# Altium schematic symbol library Main.SCHLIB: 29 symbols
Pins are listed as number, name and electrical type; pins without a type are passive.

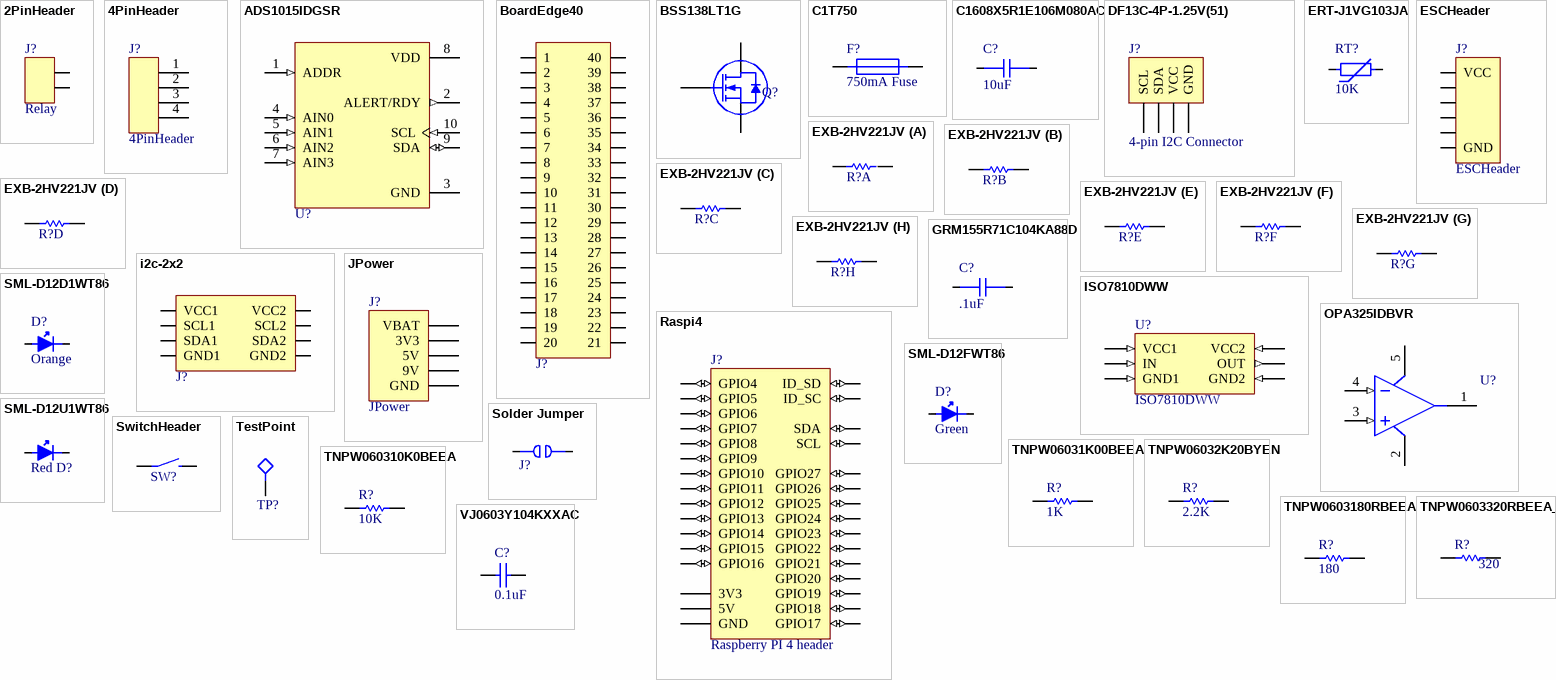
[diagram p0: symbols 2PinHeader to VJ0603Y104KXXAC]

## 2PinHeader
designator J?, comment Relay
Supplier 1: Digi-Key; Supplier Part Number 1: 3M9457-36-ND
footprint 2PinHeader
footprint MOLEX_0026604020
footprint 37212-62M3-003PL; pin to pad 1>1+4+7+10 2>2+5+8+11
pins: 1, 2

## 4PinHeader
designator J?
Supplier 1: Digi-Key; Supplier Part Number 1: 3M9457-36-ND
footprint 4PinHeader
footprint HEADERPINS_2x2
footprint ESCHeader; pin to pad 1>1+5+9 2>2+6+10 3>3+7+11 4>4+8+12
pins: 1, 2, 3 1, 4 2

## ADS1015IDGSR
designator U?  (value not drawn)
12 Bit Analog to Digital Converter 2, 4 Input 1 Sigma-Delta 10-VSSOP; MF: Texas Instruments; SnapEDA_Link: https://www.snapeda.com/parts/ADS1015IDGSR/Texas%20Instruments/view-part/449361/?ref=snap; MP: ADS1015IDGSR; Value: *; Digi-Key_Part_Number: 296-41185-1-ND; Digi-Key_Purchase_URL: https://www.digikey.ca/product-detail/en/texas-instruments/ADS1015IDGSR/296-41185-1-ND/5222640?utm_source=snapeda&utm_medium=aggregator&utm_campaign=symbol; Package: MSOP-10 Texas Instruments; Supplier 1: Digi-Key; Supplier Part Number 1: 296-41185-1-ND
footprint SOP50P490X110-10N
pins: 1 ADDR (in), 2 ALERT/RDY (out), 3 GND (power), 4 AIN0 (in), 5 AIN1 (in), 6 AIN2 (in), 7 AIN3 (in), 8 VDD (power), 9 SDA (io), 10 SCL (in)

## BoardEdge40
designator J?  (value not drawn)
40 Position Female Connector Non Specified - Dual Edge Gold 0.031" (0.80mm) Black; Supplier 1: Digi-Key; Supplier Part Number 1: 3M12034CT-ND
footprint SPD08-040-L-RB-TR
footprint SPD08-040-L-RB-TR-Board
pins: 1, 2, 3, 4, 5, 6, 7, 8, 9, 10, 11, 12, 13, 14, 15, 16, 17, 18, 19, 20, 21, 22, 23, 24, 25, 26, 27, 28, 29, 30, 31, 32, 33, 34, 35, 36, 37, 38, 39, 40

## BSS138LT1G
designator Q?, comment MOSFET N-CH  (value not drawn)
MOSFET N-CH 50V 200MA SOT-23; Manufacturer 1: ON Semiconductor; Manufacturer Part Number 1: BSS138LT1G; Rds On Max: 3.5R; Max Power Dissipation: 225mW; Input Capacitance: 50pF; Turn-Off Delay Time: 20ns; Gate to Source Voltage (Vgs): 20V; Number of Elements: 1; Element Configuration: Single; Threshold Voltage: 1.5V; Supplier 1: Digi-Key; Supplier Part Number 1: BSS138LT1GOSCT-ND; Stock 1: 952638; Pricing 1: 1=0.26000, 10=0.21100, 100=0.11210, 500=0.07376, 1000=0.05016 (USD); RoHS: Yes; Case/Package: SOT-23-3; Number of Pins: 3; Contact Plating: Tin,Matte; Min Operating Temperature: -55°C; Max Operating Temperature: 150°C; Packaging: Tape and Reel; Continuous Drain Current (ID): 200mA; Drain to Source Resistance: 3.5R; Package Quantity: 1; Drain to Source Breakdown Voltage: 50V; Power Dissipation: 225mW; Turn-On Delay Time: 20ns; Nominal Vgs: 1.5V; Voltage Rating (DC): 50V; Current Rating: 200mA; On-State Resistance: 3.5R; Length: 3.04mm; Height: 1.01mm; Width: 1.4mm; Radiation Hardening: No; Lead Free: Lead Free; REACH SVHC: No SVHC; Halogen Free: Halogen Free; ComponentLink1URL: https://datasheet.ciiva.com/22641/1596366-22641636.pdf?src-supplier=Element14; ComponentLink1Description: https://datasheet.ciiva.com/22641/1596366-22641636.pdf?src-supplier=Element14; ComponentLink2URL: https://datasheet.ciiva.com/936/bss138lt1-d-936801.pdf?src-supplier=Digi-Key; ComponentLink2Description: https://datasheet.ciiva.com/936/bss138lt1-d-936801.pdf?src-supplier=Digi-Key; ComponentLink3URL: https://datasheet.ciiva.com/936/bss138lt1-d-936802.pdf?src-supplier=Digi-Key; ComponentLink3Description: https://datasheet.ciiva.com/936/bss138lt1-d-936802.pdf?src-supplier=Digi-Key; ComponentLink4URL: https://datasheet.ciiva.com/936/bss138lt1-d-936803.pdf?src-supplier=Digi-Key; ComponentLink4Description: https://datasheet.ciiva.com/936/bss138lt1-d-936803.pdf?src-supplier=Digi-Key; ComponentLink5URL: https://datasheet.ciiva.com/14553/70099493-14553829.pdf?src-supplier=Allied+Electronics; ComponentLink5Description: https://datasheet.ciiva.com/14553/70099493-14553829.pdf?src-supplier=Allied+Electronics; ComponentLink6URL: https://datasheet.ciiva.com/1190/1596366-1190136.pdf?src-supplier=Element14; ComponentLink6Description: https://datasheet.ciiva.com/1190/1596366-1190136.pdf?src-supplier=Element14; ComponentLink7URL: https://datasheet.ciiva.com/1190/1596366-1190137.pdf?src-supplier=Element14; ComponentLink7Description: https://datasheet.ciiva.com/1190/1596366-1190137.pdf?src-supplier=Element14; ComponentLink8URL: https://datasheet.ciiva.com/15198/getdatasheetpartid-110266-15198908.pdf?src-supplier=Verical; ComponentLink8Description: https://datasheet.ciiva.com/15198/getdatasheetpartid-110266-15198908.pdf?src-supplier=Verical; ComponentLink9URL: https://datasheet.ciiva.com/8115/bss138lt1-d-8115358.pdf?src-supplier=Avnet; ComponentLink9Description: https://datasheet.ciiva.com/8115/bss138lt1-d-8115358.pdf?src-supplier=Avnet; ComponentLink10URL: https://datasheet.ciiva.com/8115/bss138lt1-d-8115295.pdf?src-supplier=Avnet; ComponentLink10Description: https://datasheet.ciiva.com/8115/bss138lt1-d-8115295.pdf?src-supplier=Avnet
footprint ONSC-SOT-23-3-318-08_V (SOT23, 3-Leads, Body 2.92x1.3mm, Pitch 0.95mm)
footprint BSS138 SOT-23
pins: 1 G, 2 S, 3 D

## C1T750
designator F?, comment 750mA Fuse
FUSE 750MA 63VAC/DC SLOW 1206; Manufacturer 1: Bel TRP; Manufacturer Part Number 1: C1T750; Voltage Rating (AC): 63V; Fuse Type: Board Mount (Cartridge Style Excluded); Approvals: CE,cURus; Supplier 1: Digi-Key; Supplier Part Number 1: 507-1890-1-ND; Stock 1: 49664; Pricing 1: 1=0.31000, 5=0.29800, 10=0.28500, 50=0.25460, 100=0.23700, 250=0.21068, 500=0.17556, 1000=0.16678 (USD); RoHS: Yes; Mount: Surface Mount; Case/Package: 1206; Number of Pins: 2; Case Code (Metric): 3216; Case Code (Imperial): 1206; Contact Plating: Tin; Min Operating Temperature: -55°C; Max Operating Temperature: 125°C; Packaging: Tape and Reel; Current Rating: 750mA; Voltage Rating (DC): 63V; Voltage Rating: 63V; Length: 0.126inch; Width: 0.062inch; ComponentLink1URL: http://www.mouser.com/ds/2/643/C1T-594765.pdf?src-supplier=Mouser; ComponentLink1Description: http://www.mouser.com/ds/2/643/C1T-594765.pdf?src-supplier=Mouser; ComponentLink2URL: http://belfuse.com/pdfs/C1T.pdf?src-supplier=Avnet; ComponentLink2Description: http://belfuse.com/pdfs/C1T.pdf?src-supplier=Avnet; ComponentLink3URL: https://belfuse.com/resources/datasheets/circuitprotection/ds-cp-c1t-series.pdf?src-supplier=Digi-Key; ComponentLink3Description: https://belfuse.com/resources/datasheets/circuitprotection/ds-cp-c1t-series.pdf?src-supplier=Digi-Key
footprint FUSC3216X130N
pins: 1, 2

## C1608X5R1E106M080AC
designator C?, comment 10uF
CAP CER 10UF 25V X5R 0603; Manufacturer 1: TDK; Manufacturer Part Number 1: C1608X5R1E106M080AC; Dielectric Material: Ceramic; Tolerance: 20%; Supplier 1: Digi-Key; Supplier Part Number 1: 445-9015-1-ND; Stock 1: 307531; Pricing 1: 1=0.84000, 10=0.62000, 100=0.42500, 500=0.33650, 1000=0.28336 (USD); RoHS: Yes; Mount: Surface Mount; Case/Package: 0603; Weight: 7.1E-05oz; Case Code (Imperial): 0603; Case Code (Metric): 1608; Min Operating Temperature: -55°C; Max Operating Temperature: 85°C; Capacitance: 10uF; Packaging: Tape and Reel; Voltage Rating: 25V; Termination: SMD/SMT; Voltage Rating (DC): 25V; Composition: Ceramic; Dielectric: X5R; Package Quantity: 1; Length: 1.6mm; Height: 0.8mm; Width: 0.8mm; Thickness: 0.039inch; Depth: 0.8mm; Lead Free: Lead Free; REACH SVHC: No SVHC; ComponentLink1URL: http://components.arrow.com/part/dataview/0323_06887183?src-supplier=Arrow+Europe; ComponentLink1Description: http://components.arrow.com/part/dataview/0323_06887183?src-supplier=Arrow+Europe; ComponentLink2URL: http://www.farnell.com/datasheets/2792994.pdf?src-supplier=Farnell; ComponentLink2Description: http://www.farnell.com/datasheets/2792994.pdf?src-supplier=Farnell; ComponentLink3URL: http://www.farnell.com/datasheets/2291921.pdf?src-supplier=Avnet; ComponentLink3Description: http://www.farnell.com/datasheets/2291921.pdf?src-supplier=Avnet; ComponentLink4URL: http://www.farnell.com/datasheets/2792994.pdf?src-supplier=Newark; ComponentLink4Description: http://www.farnell.com/datasheets/2792994.pdf?src-supplier=Newark; ComponentLink5URL: http://www.farnell.com/datasheets/2291921.pdf?src-supplier=Newark; ComponentLink5Description: http://www.farnell.com/datasheets/2291921.pdf?src-supplier=Newark; ComponentLink6URL: http://www.farnell.com/datasheets/2792994.pdf?src-supplier=Element14; ComponentLink6Description: http://www.farnell.com/datasheets/2792994.pdf?src-supplier=Element14; ComponentLink7URL: http://www.farnell.com/datasheets/1913358.pdf?src-supplier=Element14; ComponentLink7Description: http://www.farnell.com/datasheets/1913358.pdf?src-supplier=Element14; ComponentLink8URL: https://product.tdk.com/info/en/catalog/datasheets/mlcc_commercial_general_en.pdf?src-supplier=Digi-Key; ComponentLink8Description: https://product.tdk.com/info/en/catalog/datasheets/mlcc_commercial_general_en.pdf?src-supplier=Digi-Key; ComponentLink9URL: http://www.farnell.com/datasheets/2291921.pdf?src-supplier=RSComponents; ComponentLink9Description: http://www.farnell.com/datasheets/2291921.pdf?src-supplier=RSComponents; ComponentLink10URL: http://www.farnell.com/datasheets/2291921.pdf?src-supplier=Verical; ComponentLink10Description: http://www.farnell.com/datasheets/2291921.pdf?src-supplier=Verical; ComponentLink11URL: http://www.farnell.com/datasheets/2291921.pdf?src-supplier=Mouser; ComponentLink11Description: http://www.farnell.com/datasheets/2291921.pdf?src-supplier=Mouser; ComponentLink12URL: http://www.farnell.com/datasheets/2291921.pdf?src-supplier=Quest; ComponentLink12Description: http://www.farnell.com/datasheets/2291921.pdf?src-supplier=Quest; ComponentLink13URL: http://www.farnell.com/datasheets/2291921.pdf?src-supplier=TTI; ComponentLink13Description: http://www.farnell.com/datasheets/2291921.pdf?src-supplier=TTI
footprint 0603
pins: 1, 2

## DF13C-4P-1.25V(51)
designator J?, comment 4-pin I2C Connector
Headers & Wire Housings 1.25MM V PCB HEADER 4P SMT GOLD; Manufacturer 1: Hirose; Manufacturer Part Number 1: DF13C-4P-1.25V(51); Number of Contacts: 4; Current Rating: 1A; Voltage Rating: 150V; Contact Resistance: 30mR; Supplier 1: Digi-Key; Supplier Part Number 1: H126000CT-ND; Stock 1: 692; Pricing 1: 1=0.86000, 10=0.75700, 100=0.65340, 500=0.53460 (USD); RoHS: Yes; Contact Plating: Gold; Contact Material: Brass; Housing Color: Beige; Housing Material: Polyamide; Min Operating Temperature: -35°C; Max Operating Temperature: 85°C; Number of Rows: 1; Termination: Solder; Packaging: Tape and Reel; Number of Positions: 4; Contact Gender: Male; Max Current Rating: 1A; Max Voltage Rating (AC): 150V; Orientation: Straight; Length: 9.65mm; Pitch: 1.25mm; Depth: 3.4mm; Radiation Hardening: No; Lead Free: Lead Free; ComponentLink1URL: https://datasheet.ciiva.com/26898/getdatasheetpartid-434101-26898082.pdf?src-supplier=Verical; ComponentLink1Description: https://datasheet.ciiva.com/26898/getdatasheetpartid-434101-26898082.pdf?src-supplier=Verical; ComponentLink2URL: https://datasheet.ciiva.com/5153/en-df13-20130411-5153743.pdf?src-supplier=Mouser; ComponentLink2Description: https://datasheet.ciiva.com/5153/en-df13-20130411-5153743.pdf?src-supplier=Mouser
footprint CON4_1X4_U_DF13; pin to pad 1>4 2>1 4>2
pins: 1 GND, 2 VCC, 3 SDA, 4 SCL

## ERT-J1VG103JA
designator RT?, comment 10K
Thermistor NTC 10KOhm 5% 2-Pin 0603 Punched Carrier T/R; Manufacturer 1: Panasonic; Manufacturer Part Number 1: ERT-J1VG103JA; Max Power Dissipation: 100mW; Accuracy: 1%; Resistance: 10kR; Supplier 1: Digi-Key; Supplier Part Number 1: P12014CT-ND; Stock 1: 47318; Pricing 1: 1=0.15000, 5=0.14600, 10=0.13000, 25=0.12000, 50=0.09600, 100=0.08240, 500=0.07208, 1000=0.06178 (USD); RoHS: Yes; Mount: Surface Mount; Case/Package: 0603; Number of Pins: 2; Case Code (Metric): 1608; Case Code (Imperial): 0603; Min Operating Temperature: -40°C; Max Operating Temperature: 125°C; Termination: SMD/SMT; Packaging: Tape and Reel; Tolerance: 5%; Package Quantity: 4000; Length: 1.6mm; Depth: 0.8mm; Width: 800um; Radiation Hardening: No; Lead Free: Lead Free; REACH SVHC: No SVHC; ComponentLink1URL: https://datasheet.ciiva.com/1303/1314428-1303168.pdf?src-supplier=Farnell; ComponentLink1Description: https://datasheet.ciiva.com/1303/1314428-1303168.pdf?src-supplier=Farnell; ComponentLink2URL: https://datasheet.ciiva.com/30067/aua0000ce1-30067157.pdf?src-supplier=Onlinecomponents.com; ComponentLink2Description: https://datasheet.ciiva.com/30067/aua0000ce1-30067157.pdf?src-supplier=Onlinecomponents.com; ComponentLink3URL: https://datasheet.ciiva.com/46376/1314428-46376550.pdf?src-supplier=Element14; ComponentLink3Description: https://datasheet.ciiva.com/46376/1314428-46376550.pdf?src-supplier=Element14; ComponentLink4URL: https://datasheet.ciiva.com/2848/aua0000ce1-2848556.pdf?src-supplier=Digi-Key; ComponentLink4Description: https://datasheet.ciiva.com/2848/aua0000ce1-2848556.pdf?src-supplier=Digi-Key; ComponentLink5URL: https://datasheet.ciiva.com/16394/aua0000ce1-16394028.pdf?src-supplier=Future+Electronics; ComponentLink5Description: https://datasheet.ciiva.com/16394/aua0000ce1-16394028.pdf?src-supplier=Future+Electronics; ComponentLink6URL: https://datasheet.ciiva.com/46388/1314428-46388812.pdf?src-supplier=Element14; ComponentLink6Description: https://datasheet.ciiva.com/46388/1314428-46388812.pdf?src-supplier=Element14; ComponentLink7URL: https://datasheet.ciiva.com/2848/aua0000ce1-2848557.pdf?src-supplier=Digi-Key; ComponentLink7Description: https://datasheet.ciiva.com/2848/aua0000ce1-2848557.pdf?src-supplier=Digi-Key; ComponentLink8URL: https://datasheet.ciiva.com/2848/aua0000ce1-2848558.pdf?src-supplier=Digi-Key; ComponentLink8Description: https://datasheet.ciiva.com/2848/aua0000ce1-2848558.pdf?src-supplier=Digi-Key; ComponentLink9URL: https://datasheet.ciiva.com/3280/aua0000ce1-3280462.pdf?src-supplier=Avnet; ComponentLink9Description: https://datasheet.ciiva.com/3280/aua0000ce1-3280462.pdf?src-supplier=Avnet
footprint RESC1609X55X30NL10T20 (Chip Resistor, 2-Leads, Body 1.60x0.85mm, IPC Medium Density)
pins: 1, 2

## ESCHeader
designator J?
4x3 Header Block; Supplier 1: Digi-Key; Supplier Part Number 1: SAM12310-ND
footprint ESCHeader; pin to pad 1>9 2>10 3>11 4>12 5>1+2+3+4
footprint 37212-62M3-003PL
pins: 1, 2, 3, 4, 5, 6, 7, 8, 9 GND, 10, 11 VCC, 12

## EXB-2HV221JV
designator R?, comment 220  (value not drawn)
RES ARRAY 8 RES 220 OHM 1506; Supplier 1: Digi-Key; Supplier Part Number 1: Y1221CT-ND
footprint EXB2HV_PAN
part A pins: 1, 16
part B pins: 2, 15
part C pins: 3, 14
part D pins: 4, 13
part E pins: 5, 12
part F pins: 6, 11
part G pins: 7, 10
part H pins: 8, 9

## GRM155R71C104KA88D
designator C?, comment .1uF
CAP CER 0.1UF 16V X7R 0402; Dielectric Material: Ceramic; Capacitance: 10uF; Tolerance: 20%; Voltage Rating: 25V; Dielectric: X5R; RoHS: Yes; Mount: Surface Mount; Case/Package: 0603; Weight: 7.1E-05oz; Case Code (Imperial): 0603; Case Code (Metric): 1608; Min Operating Temperature: -55°C; Max Operating Temperature: 85°C; Packaging: Tape and Reel; Termination: SMD/SMT; Voltage Rating (DC): 25V; Composition: Ceramic; Package Quantity: 1; Length: 1.6mm; Height: 0.8mm; Width: 0.8mm; Thickness: 0.039inch; Depth: 0.8mm; Lead Free: Lead Free; REACH SVHC: No SVHC; ComponentLink1URL: http://components.arrow.com/part/dataview/0323_06887183?src-supplier=Arrow+Europe; ComponentLink1Description: http://components.arrow.com/part/dataview/0323_06887183?src-supplier=Arrow+Europe; ComponentLink2URL: http://www.farnell.com/datasheets/2792994.pdf?src-supplier=Farnell; ComponentLink2Description: http://www.farnell.com/datasheets/2792994.pdf?src-supplier=Farnell; ComponentLink3URL: http://www.farnell.com/datasheets/2291921.pdf?src-supplier=Avnet; ComponentLink3Description: http://www.farnell.com/datasheets/2291921.pdf?src-supplier=Avnet; ComponentLink4URL: http://www.farnell.com/datasheets/2792994.pdf?src-supplier=Newark; ComponentLink4Description: http://www.farnell.com/datasheets/2792994.pdf?src-supplier=Newark; ComponentLink5URL: http://www.farnell.com/datasheets/2291921.pdf?src-supplier=Newark; ComponentLink5Description: http://www.farnell.com/datasheets/2291921.pdf?src-supplier=Newark; ComponentLink6URL: http://www.farnell.com/datasheets/2792994.pdf?src-supplier=Element14; ComponentLink6Description: http://www.farnell.com/datasheets/2792994.pdf?src-supplier=Element14; ComponentLink7URL: http://www.farnell.com/datasheets/1913358.pdf?src-supplier=Element14; ComponentLink7Description: http://www.farnell.com/datasheets/1913358.pdf?src-supplier=Element14; ComponentLink8URL: https://product.tdk.com/info/en/catalog/datasheets/mlcc_commercial_general_en.pdf?src-supplier=Digi-Key; ComponentLink8Description: https://product.tdk.com/info/en/catalog/datasheets/mlcc_commercial_general_en.pdf?src-supplier=Digi-Key; ComponentLink9URL: http://www.farnell.com/datasheets/2291921.pdf?src-supplier=RSComponents; ComponentLink9Description: http://www.farnell.com/datasheets/2291921.pdf?src-supplier=RSComponents; ComponentLink10URL: http://www.farnell.com/datasheets/2291921.pdf?src-supplier=Verical; ComponentLink10Description: http://www.farnell.com/datasheets/2291921.pdf?src-supplier=Verical; ComponentLink11URL: http://www.farnell.com/datasheets/2291921.pdf?src-supplier=Mouser; ComponentLink11Description: http://www.farnell.com/datasheets/2291921.pdf?src-supplier=Mouser; ComponentLink12URL: http://www.farnell.com/datasheets/2291921.pdf?src-supplier=Quest; ComponentLink12Description: http://www.farnell.com/datasheets/2291921.pdf?src-supplier=Quest; ComponentLink13URL: http://www.farnell.com/datasheets/2291921.pdf?src-supplier=TTI; ComponentLink13Description: http://www.farnell.com/datasheets/2291921.pdf?src-supplier=TTI; Supplier 1: Digi-Key; Supplier Part Number 1: 490-3261-6-ND
footprint 0402
pins: 1, 2

## i2c-2x2
designator J?  (value not drawn)
Supplier 1: Digi-Key; Supplier Part Number 1: 952-1772-ND
footprint 37216-62M3-004PL
pins: 1, 2, 3, 4, 5 VCC1, 6 SCL1, 7 SDA1, 8 GND1, 9, 10, 11, 12, 13 VCC2, 14 SCL2, 15 SDA2, 16 GND2

## ISO7810DWW
designator U?
TEXAS INSTRUMENTS         ISO7810DWW             Digital Isolator, 5.7kV, 1 Channel, 10.7 ns, 2.25 V, 5.5 V, WSOIC, 16 Pins                          New; Number of Channels: 1; Propagation Delay: 10.7ns; Min Supply Voltage: 2.25V; Max Supply Voltage: 5.5V; Supplier 1: Digi-Key; Supplier Part Number 1: 296-44734-5-ND; Manufacturer 1: Texas Instruments; Manufacturer Part Number 1: ISO7810DWW; Stock 1: 18; Pricing 1: 1=6.60000, 10=5.96000, 25=5.68280, 100=4.71240, 500=4.01940, 1000=3.60360, 2500=3.46500 (USD); RoHS: No; Number of Pins: 16; Min Operating Temperature: -55°C; Max Operating Temperature: 125°C; Lead Free: Lead Free; REACH SVHC: No SVHC; ComponentLink1URL: http://www.ti.com/lit/pdf/slyb165?src-supplier=Digi-Key; ComponentLink1Description: http://www.ti.com/lit/pdf/slyb165?src-supplier=Digi-Key; ComponentLink2URL: http://www.farnell.com/datasheets/2148317.pdf?src-supplier=Element14; ComponentLink2Description: http://www.farnell.com/datasheets/2148317.pdf?src-supplier=Element14
footprint SOIC16 DW
pins: 1 GND1 (in), 3 VCC1 (in), 4 IN (in), 7 GND1 (in), 9 GND2 (in), 13 OUT (out), 14 VCC2 (in), 16 GND2 (in)

## JPower
designator J?
footprint TB002V-500-05BE (Footprint not found)
footprint TB002-500-05BE
footprint FX30B-5S-3.81DS
footprint FX30B-5P-3.81DS
pins: 1 GND, 2 9V, 3 5V, 4 3V3, 5 VBAT

## OPA325IDBVR
designator U?, comment OPA325  (value not drawn)
Manufacturer 1: Texas Instruments; Manufacturer Part Number 1: OPA325IDBVR; Supplier 1: Digi-Key; Supplier Part Number 1: 296-OPA325IDBVRCT-ND; Stock 1: 2034; Pricing 1: 1=1.69000, 10=1.51600, 25=1.43000, 100=1.14400, 250=1.00100, 500=0.97240, 1000=0.77220 (USD); RoHS: No
footprint SOT-23-5
pins: 1 OUT "Noninverting amplifier output", 2 VS- (power) "Amplifier negative power-supply input. Note that VS- is tied together on multi-channel devices.", 3 +IN (in) "Noninverting amplifier input", 4 -IN (in) "Inverting amplifier input", 5 VS+ (power) "Amplifier positive power-supply input"

## Raspi4
designator J?, comment Raspberry PI 4 header
https://www.adafruit.com/product/1979; Supplier 1: Digi-Key; Supplier Part Number 1: 1690-RASPBERRYPI4B/2GB-ND
footprint RASPI Header - Vert
pins: 1 3V3 (power), 2 5V (power), 3 SDA (io), 4 5V (power), 5 SCL (io), 6 GND (power), 7 GPIO4 (io), 8 GPIO14 (io), 9 GND, 10 GPIO15 (io), 11 GPIO17 (io), 12 GPIO18 (io), 13 GPIO27 (io), 14 GND, 15 GPIO22 (io), 16 GPIO23 (io), 17 3V3 (power), 18 GPIO24 (io), 19 GPIO10 (io), 20 GND, 21 GPIO9 (io), 22 GPIO25 (io), 23 GPIO11 (io), 24 GPIO8 (io), 25 GND, 26 GPIO7 (io), 27 ID_SD (io), 28 ID_SC (io), 29 GPIO5 (io), 30 GND, 31 GPIO6 (io), 32 GPIO12 (io), 33 GPIO13 (io), 34 GND, 35 GPIO19 (io), 36 GPIO16 (io), 37 GPIO26 (io), 38 GPIO20 (io), 39 GND, 40 GPIO21 (io)

## SML-D12D1WT86
designator D?, comment Orange
LED ORANGE DIFFUSED 1608 SMD; Manufacturer 1: Rohm; Manufacturer Part Number 1: SML-D12D1WT86; Lens Color: White; Luminous Intensity: 100mcd; Test Current: 20mA; Dominant Wavelength: 605nm; Forward Voltage: 2.2V; Supplier 1: Digi-Key; Supplier Part Number 1: SML-D12D1WT86CT-ND; Stock 1: 40013; Pricing 1: 1=0.21000, 10=0.15500, 100=0.07330, 500=0.04884, 1000=0.03826 (USD); RoHS: Yes; Mount: Surface Mount; Case/Package: 0603; Color: Orange; Case Code (Metric): 1608; Case Code (Imperial): 0603; Packaging: Tape and Reel; Lens Transparency: Diffused; Length: 1.6mm; Height: 0.65mm; Width: 0.8mm; Lead Free: Lead Free; ComponentLink1URL: https://www.rohm.com/datasheet/SML-D12D1W?src-supplier=Digi-Key; ComponentLink1Description: https://www.rohm.com/datasheet/SML-D12D1W?src-supplier=Digi-Key
footprint LED-D12
pins: A, C

## SML-D12FWT86
designator D?, comment Green
LED GREEN DIFFUSED 1608 SMD; Manufacturer 1: Rohm; Manufacturer Part Number 1: SML-D12FWT86; Lens Color: White; Luminous Intensity: 18mcd; Test Current: 20mA; Dominant Wavelength: 565nm; Lens Style: Colored,Rectangular; Forward Voltage: 2.2V; Number of LEDs: 1; Supplier 1: Digi-Key; Supplier Part Number 1: 846-1176-1-ND; Stock 1: 10669; Pricing 1: 1=0.50000, 10=0.35300, 100=0.20580, 500=0.14112, 1000=0.11760 (USD); RoHS: Yes; Mount: Surface Mount; Case/Package: 0603; Number of Pins: 2; Color: Green; Case Code (Metric): 1608; Case Code (Imperial): 0603; Packaging: Tape and Reel; Lens Transparency: Diffused; Length: 1.6mm; Height: 0.65mm; Width: 0.8mm; Lead Free: Lead Free; ComponentLink1URL: http://www.mouser.com/ds/2/348/sml-d12y3w_fw-1018563.pdf?src-supplier=Mouser; ComponentLink1Description: http://www.mouser.com/ds/2/348/sml-d12y3w_fw-1018563.pdf?src-supplier=Mouser; ComponentLink2URL: http://www.rohm.com/web/global/datasheet/SML-D12Y3W?src-supplier=Digi-Key; ComponentLink2Description: http://www.rohm.com/web/global/datasheet/SML-D12Y3W?src-supplier=Digi-Key; ComponentLink3URL: http://rohmfs.rohm.com/en/products/databook/datasheet/opto/led/chip_mono/sml-d12.pdf?src-supplier=Avnet; ComponentLink3Description: http://rohmfs.rohm.com/en/products/databook/datasheet/opto/led/chip_mono/sml-d12.pdf?src-supplier=Avnet; ComponentLink4URL: https://www.rohm.com/datasheet/SML-D12Y3W?src-supplier=Digi-Key; ComponentLink4Description: https://www.rohm.com/datasheet/SML-D12Y3W?src-supplier=Digi-Key
footprint LED-D12
pins: A, C

## SML-D12U1WT86
designator D?, comment Red
LED RED DIFFUSED 1608 SMD; Manufacturer 1: Rohm; Manufacturer Part Number 1: SML-D12U1WT86; Lens Color: White; Luminous Intensity: 63mcd; Test Current: 20mA; Dominant Wavelength: 620nm; Forward Voltage: 2.2V; Supplier 1: Digi-Key; Supplier Part Number 1: SML-D12U1WT86CT-ND; Stock 1: 73334; Pricing 1: 1=0.21000, 10=0.15500, 100=0.07330, 500=0.04884, 1000=0.03826 (USD); RoHS: Yes; Mount: Surface Mount; Case/Package: 0603; Color: Red; Case Code (Metric): 1608; Case Code (Imperial): 0603; Packaging: Tape and Reel; Lens Transparency: Diffused; Length: 1.6mm; Height: 0.65mm; Width: 0.8mm; Lead Free: Lead Free; ComponentLink1URL: https://www.rohm.com/datasheet/SML-D12U1W?src-supplier=Digi-Key; ComponentLink1Description: https://www.rohm.com/datasheet/SML-D12U1W?src-supplier=Digi-Key
footprint LED-D12
pins: A, C

## Solder Jumper
designator J?  (value not drawn)
Simple Jumper
footprint SolderJumper
pins: 1, 2

## SwitchHeader
designator SW?  (value not drawn)
Supplier 1: Digi-Key; Supplier Part Number 1: 3M9457-36-ND
footprint 2PinHeader
pins: 1, 2

## TestPoint
designator TP?, comment SMD Testpoint  (value not drawn)
Phosphor Bronze Contact Miniature Silver Plated Surface Mount Test Points; Manufacturer 1: Keystone Electronics; Manufacturer Part Number 1: 5029; Supplier 1: Digi-Key; Supplier Part Number 1: 36-5029CT-ND; Stock 1: 22565; Pricing 1: 1=0.34000, 25=0.27560, 100=0.22500, 250=0.20208, 500=0.19288, 1000=0.16330, 2500=0.15140 (USD); RoHS: Yes; Mount: Surface Mount; Case/Package: SMD/SMT; Material: Bronze; Contact Material: Bronze; Contact Plating: Silver; Package Quantity: 5000; Packaging: Tape and Reel; Lead Free: Lead Free; REACH SVHC: No SVHC; ComponentLink1URL: https://datasheet.ciiva.com/4598/5029-33906-4598691.pdf?src-supplier=Mouser; ComponentLink1Description: https://datasheet.ciiva.com/4598/5029-33906-4598691.pdf?src-supplier=Mouser
footprint TP5029
footprint S2751-46R
pins: 1

## TNPW06031K00BEEA
designator R?, comment 1K
RES 1K OHM 0.1% 1/8W 0603; Tolerance: 1%; Resistance: 1kR; Temperature Coefficient: 25ppm/°C; Power Rating: 100mW; Voltage Rating: 75V; RoHS: Yes; Mount: Surface Mount; Case/Package: 0603; Weight: 7.1E-05oz; Contact Plating: Tin; Case Code (Metric): 1608; Case Code (Imperial): 0603; Min Operating Temperature: -55°C; Max Operating Temperature: 125°C; Composition: Thin Film; Packaging: Tape and Reel; Package Quantity: 1; Number of Terminations: 2; Termination: SMD/SMT; Military Standard: Not; Max Power Dissipation: 100mW; Voltage Rating (DC): 75V; Features: Moisture Resistant,Automotive AEC-Q200,Anti-Sulfur; Length: 1.6mm; Height: 0.45mm; Width: 0.033inch; Depth: 0.85mm; Radiation Hardening: No; REACH SVHC: Unknown; Lead Free: Lead Free; ComponentLink1URL: https://datasheet.ciiva.com/2528/tnpw-e3-2528472.pdf?src-supplier=Digi-Key; ComponentLink1Description: https://datasheet.ciiva.com/2528/tnpw-e3-2528472.pdf?src-supplier=Digi-Key; ComponentLink2URL: https://datasheet.ciiva.com/2528/tnpw-e3-2528473.pdf?src-supplier=Digi-Key; ComponentLink2Description: https://datasheet.ciiva.com/2528/tnpw-e3-2528473.pdf?src-supplier=Digi-Key; ComponentLink3URL: https://datasheet.ciiva.com/9112/tnpw-e3-9112138.pdf?src-supplier=Avnet; ComponentLink3Description: https://datasheet.ciiva.com/9112/tnpw-e3-9112138.pdf?src-supplier=Avnet; ComponentLink4URL: https://datasheet.ciiva.com/16391/tnpw-e3-16391675.pdf?src-supplier=Future+Electronics; ComponentLink4Description: https://datasheet.ciiva.com/16391/tnpw-e3-16391675.pdf?src-supplier=Future+Electronics; ComponentLink5URL: https://datasheet.ciiva.com/9112/tnpw-e3-9112141.pdf?src-supplier=Avnet; ComponentLink5Description: https://datasheet.ciiva.com/9112/tnpw-e3-9112141.pdf?src-supplier=Avnet; ComponentLink6URL: https://datasheet.ciiva.com/16782/70201627-16782047.pdf?src-supplier=Allied+Electronics; ComponentLink6Description: https://datasheet.ciiva.com/16782/70201627-16782047.pdf?src-supplier=Allied+Electronics; Supplier 1: Digi-Key; Supplier Part Number 1: TNP1.00KAACT-ND
footprint RESC1609X55X30LL10T20 (Chip Resistor, 2-Leads, Body 1.60x0.85mm, IPC High Density)
footprint RESC1609X55X30ML10T20 (Chip Resistor, 2-Leads, Body 1.60x0.85mm, IPC Low Density)
footprint RESC1609X55X30NL10T20 (Chip Resistor, 2-Leads, Body 1.60x0.85mm, IPC Medium Density)
pins: 1, 2

## TNPW06032K20BYEN
designator R?, comment 2.2K
RES 2.2K  OHM 0.1% 1/8W 0603; Manufacturer 1: Vishay; Manufacturer Part Number 1: TNPW06032K20BYEN; Resistance: 2.2kR; Temperature Coefficient: 10ppm/°C; Power Rating: 100mW; Supplier 1: Digi-Key; Supplier Part Number 1: 541-9822-1-ND; Stock 1: 1000; Pricing 1: 1=0.88000, 10=0.76200, 100=0.53130 (USD); RoHS: Yes; Mount: Surface Mount; Case/Package: 0603; Contact Plating: Tin; Min Operating Temperature: -55°C; Max Operating Temperature: 125°C; Tolerance: 0.1%; Composition: Thin Film; Packaging: Tape and Reel; Military Standard: Not; Length: 1.6mm; Height: 0.45mm; Depth: 0.85mm; Radiation Hardening: No; ComponentLink1URL: https://datasheet.ciiva.com/11821/0900766b80d9a43d-11821758.pdf?src-supplier=RSComponents; ComponentLink1Description: https://datasheet.ciiva.com/11821/0900766b80d9a43d-11821758.pdf?src-supplier=RSComponents; ComponentLink2URL: https://datasheet.ciiva.com/17202/tnpw-e3-17202093.pdf?src-supplier=Avnet+Europe; ComponentLink2Description: https://datasheet.ciiva.com/17202/tnpw-e3-17202093.pdf?src-supplier=Avnet+Europe
footprint RESC1609X55X30LL10T20 (Chip Resistor, 2-Leads, Body 1.60x0.85mm, IPC High Density)
footprint RESC1609X55X30ML10T20 (Chip Resistor, 2-Leads, Body 1.60x0.85mm, IPC Low Density)
footprint RESC1609X55X30NL10T20 (Chip Resistor, 2-Leads, Body 1.60x0.85mm, IPC Medium Density)
pins: 1, 2

## TNPW060310K0BEEA
designator R?, comment 10K
RES 10K OHM 0.1% 1/8W 0603; Tolerance: 1%; Resistance: 1kR; Temperature Coefficient: 25ppm/°C; Power Rating: 100mW; Voltage Rating: 75V; RoHS: Yes; Mount: Surface Mount; Case/Package: 0603; Weight: 7.1E-05oz; Contact Plating: Tin; Case Code (Metric): 1608; Case Code (Imperial): 0603; Min Operating Temperature: -55°C; Max Operating Temperature: 125°C; Composition: Thin Film; Packaging: Tape and Reel; Package Quantity: 1; Number of Terminations: 2; Termination: SMD/SMT; Military Standard: Not; Max Power Dissipation: 100mW; Voltage Rating (DC): 75V; Features: Moisture Resistant,Automotive AEC-Q200,Anti-Sulfur; Length: 1.6mm; Height: 0.45mm; Width: 0.033inch; Depth: 0.85mm; Radiation Hardening: No; REACH SVHC: Unknown; Lead Free: Lead Free; ComponentLink1URL: https://datasheet.ciiva.com/2528/tnpw-e3-2528472.pdf?src-supplier=Digi-Key; ComponentLink1Description: https://datasheet.ciiva.com/2528/tnpw-e3-2528472.pdf?src-supplier=Digi-Key; ComponentLink2URL: https://datasheet.ciiva.com/2528/tnpw-e3-2528473.pdf?src-supplier=Digi-Key; ComponentLink2Description: https://datasheet.ciiva.com/2528/tnpw-e3-2528473.pdf?src-supplier=Digi-Key; ComponentLink3URL: https://datasheet.ciiva.com/9112/tnpw-e3-9112138.pdf?src-supplier=Avnet; ComponentLink3Description: https://datasheet.ciiva.com/9112/tnpw-e3-9112138.pdf?src-supplier=Avnet; ComponentLink4URL: https://datasheet.ciiva.com/16391/tnpw-e3-16391675.pdf?src-supplier=Future+Electronics; ComponentLink4Description: https://datasheet.ciiva.com/16391/tnpw-e3-16391675.pdf?src-supplier=Future+Electronics; ComponentLink5URL: https://datasheet.ciiva.com/9112/tnpw-e3-9112141.pdf?src-supplier=Avnet; ComponentLink5Description: https://datasheet.ciiva.com/9112/tnpw-e3-9112141.pdf?src-supplier=Avnet; ComponentLink6URL: https://datasheet.ciiva.com/16782/70201627-16782047.pdf?src-supplier=Allied+Electronics; ComponentLink6Description: https://datasheet.ciiva.com/16782/70201627-16782047.pdf?src-supplier=Allied+Electronics; Supplier 1: Digi-Key; Supplier Part Number 1: TNP10.0KAACT-ND
footprint RESC1609X55X30LL10T20 (Chip Resistor, 2-Leads, Body 1.60x0.85mm, IPC High Density)
footprint RESC1609X55X30ML10T20 (Chip Resistor, 2-Leads, Body 1.60x0.85mm, IPC Low Density)
footprint RESC1609X55X30NL10T20 (Chip Resistor, 2-Leads, Body 1.60x0.85mm, IPC Medium Density)
pins: 1, 2

## TNPW0603180RBEEA
designator R?, comment 180
RES 180 OHM 0.1% 1/8W 0603; Tolerance: 1%; Resistance: 1kR; Temperature Coefficient: 25ppm/°C; Power Rating: 100mW; Voltage Rating: 75V; RoHS: Yes; Mount: Surface Mount; Case/Package: 0603; Weight: 7.1E-05oz; Contact Plating: Tin; Case Code (Metric): 1608; Case Code (Imperial): 0603; Min Operating Temperature: -55°C; Max Operating Temperature: 125°C; Composition: Thin Film; Packaging: Tape and Reel; Package Quantity: 1; Number of Terminations: 2; Termination: SMD/SMT; Military Standard: Not; Max Power Dissipation: 100mW; Voltage Rating (DC): 75V; Features: Moisture Resistant,Automotive AEC-Q200,Anti-Sulfur; Length: 1.6mm; Height: 0.45mm; Width: 0.033inch; Depth: 0.85mm; Radiation Hardening: No; REACH SVHC: Unknown; Lead Free: Lead Free; ComponentLink1URL: https://datasheet.ciiva.com/2528/tnpw-e3-2528472.pdf?src-supplier=Digi-Key; ComponentLink1Description: https://datasheet.ciiva.com/2528/tnpw-e3-2528472.pdf?src-supplier=Digi-Key; ComponentLink2URL: https://datasheet.ciiva.com/2528/tnpw-e3-2528473.pdf?src-supplier=Digi-Key; ComponentLink2Description: https://datasheet.ciiva.com/2528/tnpw-e3-2528473.pdf?src-supplier=Digi-Key; ComponentLink3URL: https://datasheet.ciiva.com/9112/tnpw-e3-9112138.pdf?src-supplier=Avnet; ComponentLink3Description: https://datasheet.ciiva.com/9112/tnpw-e3-9112138.pdf?src-supplier=Avnet; ComponentLink4URL: https://datasheet.ciiva.com/16391/tnpw-e3-16391675.pdf?src-supplier=Future+Electronics; ComponentLink4Description: https://datasheet.ciiva.com/16391/tnpw-e3-16391675.pdf?src-supplier=Future+Electronics; ComponentLink5URL: https://datasheet.ciiva.com/9112/tnpw-e3-9112141.pdf?src-supplier=Avnet; ComponentLink5Description: https://datasheet.ciiva.com/9112/tnpw-e3-9112141.pdf?src-supplier=Avnet; ComponentLink6URL: https://datasheet.ciiva.com/16782/70201627-16782047.pdf?src-supplier=Allied+Electronics; ComponentLink6Description: https://datasheet.ciiva.com/16782/70201627-16782047.pdf?src-supplier=Allied+Electronics; Supplier 1: Digi-Key; Supplier Part Number 1: 541-4531-1-ND
footprint RESC1609X55X30LL10T20 (Chip Resistor, 2-Leads, Body 1.60x0.85mm, IPC High Density)
footprint RESC1609X55X30ML10T20 (Chip Resistor, 2-Leads, Body 1.60x0.85mm, IPC Low Density)
footprint RESC1609X55X30NL10T20 (Chip Resistor, 2-Leads, Body 1.60x0.85mm, IPC Medium Density)
pins: 1, 2

## TNPW0603320RBEEA_1
designator R?, comment 320
RES 180 OHM 0.1% 1/8W 0603; Tolerance: 1%; Resistance: 1kR; Temperature Coefficient: 25ppm/°C; Power Rating: 100mW; Voltage Rating: 75V; RoHS: Yes; Mount: Surface Mount; Case/Package: 0603; Weight: 7.1E-05oz; Contact Plating: Tin; Case Code (Metric): 1608; Case Code (Imperial): 0603; Min Operating Temperature: -55°C; Max Operating Temperature: 125°C; Composition: Thin Film; Packaging: Tape and Reel; Package Quantity: 1; Number of Terminations: 2; Termination: SMD/SMT; Military Standard: Not; Max Power Dissipation: 100mW; Voltage Rating (DC): 75V; Features: Moisture Resistant,Automotive AEC-Q200,Anti-Sulfur; Length: 1.6mm; Height: 0.45mm; Width: 0.033inch; Depth: 0.85mm; Radiation Hardening: No; REACH SVHC: Unknown; Lead Free: Lead Free; ComponentLink1URL: https://datasheet.ciiva.com/2528/tnpw-e3-2528472.pdf?src-supplier=Digi-Key; ComponentLink1Description: https://datasheet.ciiva.com/2528/tnpw-e3-2528472.pdf?src-supplier=Digi-Key; ComponentLink2URL: https://datasheet.ciiva.com/2528/tnpw-e3-2528473.pdf?src-supplier=Digi-Key; ComponentLink2Description: https://datasheet.ciiva.com/2528/tnpw-e3-2528473.pdf?src-supplier=Digi-Key; ComponentLink3URL: https://datasheet.ciiva.com/9112/tnpw-e3-9112138.pdf?src-supplier=Avnet; ComponentLink3Description: https://datasheet.ciiva.com/9112/tnpw-e3-9112138.pdf?src-supplier=Avnet; ComponentLink4URL: https://datasheet.ciiva.com/16391/tnpw-e3-16391675.pdf?src-supplier=Future+Electronics; ComponentLink4Description: https://datasheet.ciiva.com/16391/tnpw-e3-16391675.pdf?src-supplier=Future+Electronics; ComponentLink5URL: https://datasheet.ciiva.com/9112/tnpw-e3-9112141.pdf?src-supplier=Avnet; ComponentLink5Description: https://datasheet.ciiva.com/9112/tnpw-e3-9112141.pdf?src-supplier=Avnet; ComponentLink6URL: https://datasheet.ciiva.com/16782/70201627-16782047.pdf?src-supplier=Allied+Electronics; ComponentLink6Description: https://datasheet.ciiva.com/16782/70201627-16782047.pdf?src-supplier=Allied+Electronics; Supplier 1: Digi-Key; Supplier Part Number 1: 541-4544-1-ND
footprint RESC1609X55X30LL10T20 (Chip Resistor, 2-Leads, Body 1.60x0.85mm, IPC High Density)
footprint RESC1609X55X30ML10T20 (Chip Resistor, 2-Leads, Body 1.60x0.85mm, IPC Low Density)
footprint RESC1609X55X30NL10T20 (Chip Resistor, 2-Leads, Body 1.60x0.85mm, IPC Medium Density)
pins: 1, 2

## VJ0603Y104KXXAC
designator C?, comment 0.1uF
CAP CER 0.1UF 25V X7R 0603; Manufacturer: Vitramon; Part Number: VJ0603Y-104KXXAC; Supplier 1: Digi-Key; Supplier Part Number 1: 720-1378-1-ND
footprint CAPC1608X97X38LL12T08 (Chip Capacitor, 2-Leads, Body 1.60x0.80mm, IPC High Density)
footprint CAPC1608X97X38ML12T08 (Chip Capacitor, 2-Leads, Body 1.60x0.80mm, IPC Low Density)
footprint CAPC1608X97X38NL12T08 (Chip Capacitor, 2-Leads, Body 1.60x0.80mm, IPC Medium Density)
pins: 1, 2
1 alternate drawing of the same symbol